# EAGLE library part 5050_RGB_SMD_LED (library launchpad_bp)
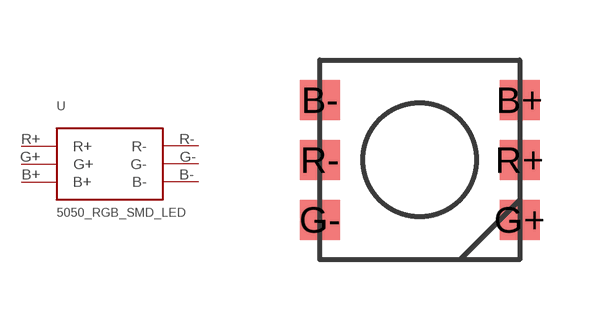
[diagram p13: symbol with the pads of 5050_RGB_SMD_LED; footprint 5050_RGB_SMD_LED]

Designator prefix -

## 5050_RGB_SMD_LED  [5050_RGB_SMD_LED]
B+  B+  pas
B-  B-  pas
G+  G+  pas
G-  G-  pas
R+  R+  pas
R-  R-  pas

## Footprint 5050_RGB_SMD_LED (pad centres in mm)
smd 1 x 1: B+ 2.5,1.5; B- -2.5,1.5; G+ 2.5,-1.5; G- -2.5,-1.5; R+ 2.5,0; R- -2.5,0